# EAGLE library part M05X2 (library RepRapjr_o)
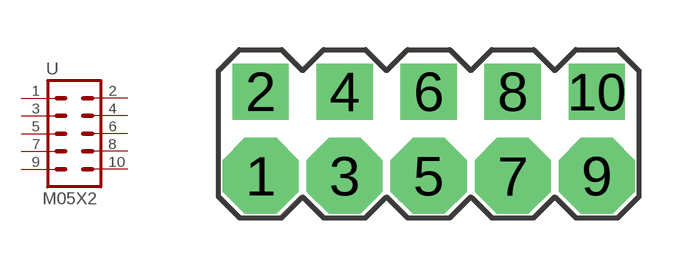
[diagram p3: symbol with the pads of 2X5; footprint 2X5]

Designator prefix -

## M05X2  [2X5]
1  1  pas
2  2  pas
3  3  pas
4  4  pas
5  5  pas
6  6  pas
7  7  pas
8  8  pas
9  9  pas
10  10  pas

## Footprint 2X5 (pad centres in mm)
drill 0.9 pad 2.3 octagon: 1 -3.81,-1.27; 3 -1.27,-1.27; 5 1.27,-1.27; 7 3.81,-1.27; 9 6.35,-1.27
drill 0.9 pad 1.7 square: 2 -3.81,1.27; 4 -1.27,1.27; 6 1.27,1.27; 8 3.81,1.27; 10 6.35,1.27